# EAGLE library part SBH41-NBPB-D20 (library con-Sullins)
CONN HEADR 1.27MM 40POS GOLD SMD
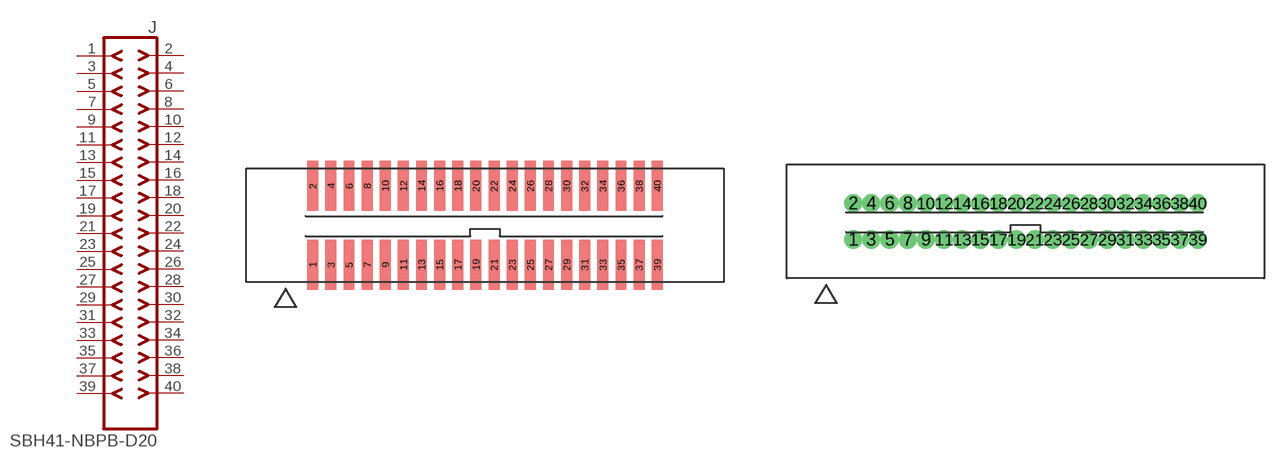
[diagram p2: symbol with the pads of SBH41-NBPB-D20; footprints SBH41-NBPB-D20, SBH41-NBPB-D20-ST-BKTH]

Designator prefix J

## SBH41-NBPB-D20 (ASSOC: S9156-ND; DIGIKEY: S9147-ND)  [SBH41-NBPB-D20]
1  1  pas
2  2  pas
3  3  pas
4  4  pas
5  5  pas
6  6  pas
7  7  pas
8  8  pas
9  9  pas
10  10  pas
11  11  pas
12  12  pas
13  13  pas
14  14  pas
15  15  pas
16  16  pas
17  17  pas
18  18  pas
19  19  pas
20  20  pas
21  21  pas
22  22  pas
23  23  pas
24  24  pas
25  25  pas
26  26  pas
27  27  pas
28  28  pas
29  29  pas
30  30  pas
31  31  pas
32  32  pas
33  33  pas
34  34  pas
35  35  pas
36  36  pas
37  37  pas
38  38  pas
39  39  pas
40  40  pas

## SBH41-NBPB-D20TH (DIGIKEY: S9127-ND; MPN: SBH41-NBPB-D20-ST-BK)  [SBH41-NBPB-D20-ST-BKTH]
Pads as for SBH41-NBPB-D20

## Footprint SBH41-NBPB-D20 (pad centres in mm)
smd 0.762 x 3.505: 1 -12.065,-2.756; 2 -12.065,2.756; 3 -10.795,-2.756; 4 -10.795,2.756; 5 -9.525,-2.756; 6 -9.525,2.756; 7 -8.255,-2.756; 8 -8.255,2.756; 9 -6.985,-2.756; 10 -6.985,2.756; 11 -5.715,-2.756; 12 -5.715,2.756; 13 -4.445,-2.756; 14 -4.445,2.756; 15 -3.175,-2.756; 16 -3.175,2.756; 17 -1.905,-2.756; 18 -1.905,2.756; 19 -0.635,-2.756; 20 -0.635,2.756; 21 0.635,-2.756; 22 0.635,2.756; 23 1.905,-2.756; 24 1.905,2.756; 25 3.175,-2.756; 26 3.175,2.756; 27 4.445,-2.756; 28 4.445,2.756; 29 5.715,-2.756; 30 5.715,2.756; 31 6.985,-2.756; 32 6.985,2.756; 33 8.255,-2.756; 34 8.255,2.756; 35 9.525,-2.756; 36 9.525,2.756; 37 10.795,-2.756; 38 10.795,2.756; 39 12.065,-2.756; 40 12.065,2.756

## Footprint SBH41-NBPB-D20-ST-BKTH (pad centres in mm)
drill 0.762: 1 -12.065,-1.27; 2 -12.065,1.27; 3 -10.795,-1.27; 4 -10.795,1.27; 5 -9.525,-1.27; 6 -9.525,1.27; 7 -8.255,-1.27; 8 -8.255,1.27; 9 -6.985,-1.27; 10 -6.985,1.27; 11 -5.715,-1.27; 12 -5.715,1.27; 13 -4.445,-1.27; 14 -4.445,1.27; 15 -3.175,-1.27; 16 -3.175,1.27; 17 -1.905,-1.27; 18 -1.905,1.27; 19 -0.635,-1.27; 20 -0.635,1.27; 21 0.635,-1.27; 22 0.635,1.27; 23 1.905,-1.27; 24 1.905,1.27; 25 3.175,-1.27; 26 3.175,1.27; 27 4.445,-1.27; 28 4.445,1.27; 29 5.715,-1.27; 30 5.715,1.27; 31 6.985,-1.27; 32 6.985,1.27; 33 8.255,-1.27; 34 8.255,1.27; 35 9.525,-1.27; 36 9.525,1.27; 37 10.795,-1.27; 38 10.795,1.27; 39 12.065,-1.27; 40 12.065,1.27